# EAGLE library part MSA301 (library pimoroni-ics)
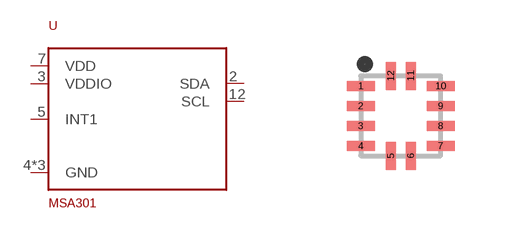
[diagram p99: symbol with the pads of LGA-12; footprint LGA-12]

Designator prefix -

## MSA301  [LGA-12]
2  SDA
3  VDDIO
4  GND
5  INT1
7  VDD
8  GND
9  GND
12  SCL

## Footprint LGA-12 (pad centres in mm)
smd 0.7 x 0.25: 1 -1,0.75; 2 -1,0.25; 3 -1,-0.25; 4 -1,-0.75; 7 1,-0.75; 8 1,-0.25; 9 1,0.25; 10 1,0.75
smd 0.25 x 0.7: 5 -0.25,-1; 6 0.25,-1; 11 0.25,1; 12 -0.25,1